# EAGLE library part IC_BUFF_SN74LVC2T45DCT (library dp_devices)
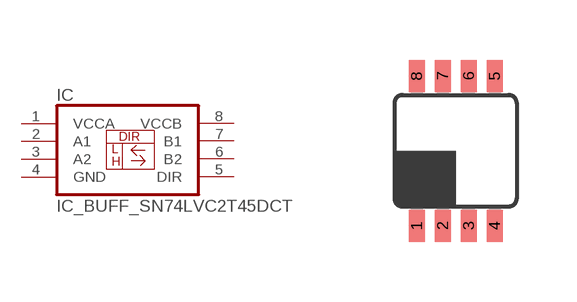
[diagram p27: symbol with the pads of DCT_R_PDSO_G8; footprint DCT_R_PDSO_G8]

Designator prefix IC

## IC_BUFF_SN74LVC2T45DCT  [DCT_R_PDSO_G8]
1  VCCA  pwr
2  A1
3  A2
4  GND  pwr
5  DIR  in
6  B2
7  B1
8  VCCB  pwr

## Footprint DCT_R_PDSO_G8 (pad centres in mm)
smd 0.4 x 0.8: 1 -0.975,-1.875; 2 -0.325,-1.875; 3 0.325,-1.875; 4 0.975,-1.875; 5 0.975,1.875; 6 0.325,1.875; 7 -0.325,1.875; 8 -0.975,1.875